# Altium footprint library PcbLib1.PcbLib: 19 footprints (part 2 of 2)
Each footprint in its own frame and in the unit in brackets; x right, y up, seen from the top. Pads: shape width x height; smd on the part's side, far side on the other; paste and mask are expansions set on the pad; w line width, h text height; cw(c..) or ccw(c..) is an arc to the next point about the centre after c.
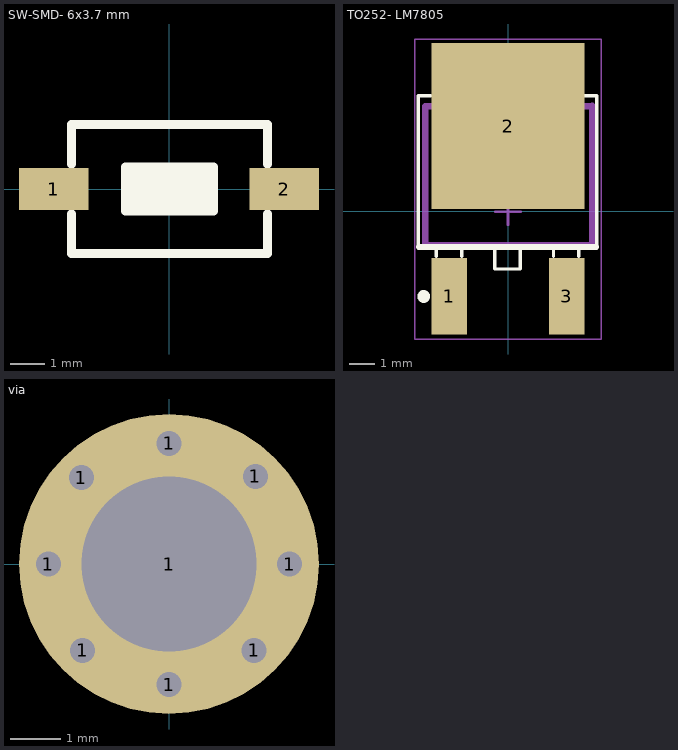
[diagram p1: the footprints below, top view; thin cyan lines are the x and y axes]

## SW-SMD- 6x3.7 mm [mm]
pads (2):
  rect 2x1.2 smd: 1(-3.327,0) 2(3.302,0)
Top Overlay:
  rectangle: -1.27,-0.635 1.27,0.635
  lines w0.254: -2.819,-0.711 -2.819,-1.854 2.819,-1.854 2.819,-0.711 ; -2.819,0.711 -2.819,1.854 2.819,1.854 2.819,0.711 ; -1.27,-0.635 -1.27,0.635 1.27,0.635 1.27,-0.635 -1.27,-0.635
3D body "User Library-Button-SMD.step": height 2.5, standoff 0, extent -3.05,-1.85 3.05,1.85

## TO252- LM7805 [mm]
pads (3):
  rect 1.4x3 smd: 1(-2.3,-3.341) 3(2.3,-3.341)
  rect 6x6.5 smd: 2(0,3.341)
Top Overlay:
  circle w0.25: c-3.305,-3.347 r0.125
  lines w0.127: -3.019,4.533 -3.519,4.533 -3.519,-1.467 3.481,-1.467 3.481,4.533 2.981,4.533 ; -2.819,-1.778 -2.819,-1.467 -1.819,-1.467 -1.819,-1.778 ; 1.781,-1.778 1.781,-1.467 2.781,-1.467 2.781,-1.778 ; -0.519,-2.267 0.481,-2.267 0.481,-1.467 -0.519,-1.467 -0.519,-2.267
  lines w0.2: -3.519,-1.397 3.481,-1.397
Mechanical 13:
  lines w0.254: -3.251,-1.346 3.302,-1.346 3.302,4.14 3.277,4.115 -3.251,4.115 -3.251,-1.346
Mechanical 15:
  lines w0.05: -3.65,-5.017 -3.65,6.756 3.65,6.756 3.65,-5.017 -3.65,-5.017
  lines w0.1: -0.5,-0.025 0.5,-0.025 ; 0,-0.525 0,0.475
3D body "TO252_LM7805.STEP": height 2.3, standoff 0, extent -3.25,-3.449 3.25,5.451

## via [mm]
pads (9):
  round 1 hole 0.5: 1(-2.413,0) 1(-1.753,1.727) 1(-1.727,-1.727) 1(0,-2.413) 1(0,2.413) 1(1.702,-1.727) 1(1.727,1.753) 1(2.413,0)
  round 6 hole 3.5: 1(0,0)